# Altium footprint library Batt_Renata_SMTU2032-LF_eec_0.PcbLib: 1 footprints
Each footprint in its own frame and in the unit in brackets; x right, y up, seen from the top. Pads: shape width x height; smd on the part's side, far side on the other; paste and mask are expansions set on the pad; w line width, h text height; cw(c..) or ccw(c..) is an arc to the next point about the centre after c.
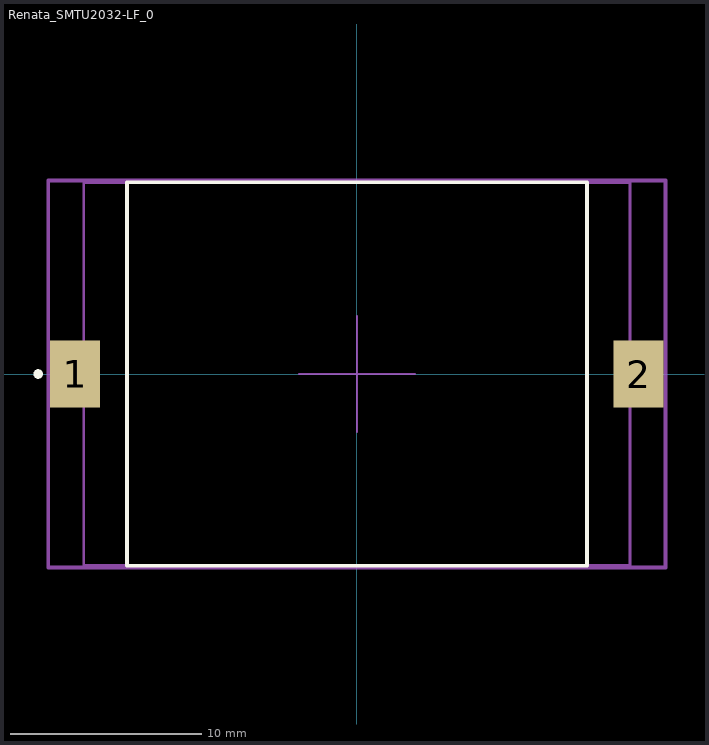
[diagram p0: the footprint, top view; thin cyan lines are the x and y axes]

## Renata_SMTU2032-LF_0 [mm]
pads (2):
  rect 2.6x3.5 smd paste+0 mask+0: 1(-14.7,0) 2(14.7,0)
Top Overlay:
  circle w0.25: c-16.625,0 r0.125
  lines w0.2: -12,-10 12,-10 12,10 -12,10 -12,-10
Mechanical 10:
  lines w0.2: -16.1,-10.1 16.1,-10.1 16.1,10.1 -16.1,10.1 -16.1,-10.1
  text ".Designator" at 0,0 h1
Mechanical 12:
  lines w0.15: -14.25,-10 14.25,-10 14.25,10 -14.25,10 -14.25,-10
Mechanical 15:
  lines w0.1: -3.03,0 3.03,0 ; 0,-3.03 0,3.03
  lines w0.2: -16.1,-10.1 16.1,-10.1 16.1,10.1 -16.1,10.1 -16.1,-10.1
3D body "3dmodel.step": height 0.25, standoff 0, extent -16.1,-10.1 16.1,10.1